# Altium schematic symbol library dvl.SchLib: 3 symbols
Pins are listed as number, name and electrical type; pins without a type are passive.

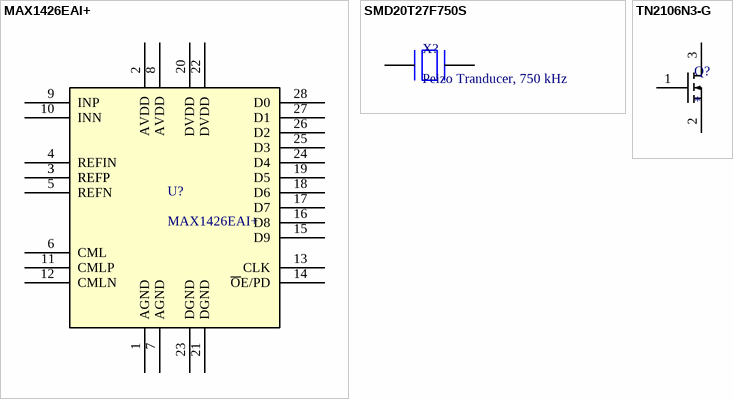
[diagram p0: symbols MAX1426EAI+ to TN2106N3-G]

## MAX1426EAI+
designator U?
No Description Available; Mfr_Name: Analog Devices / Maxim Integrated; RefDes: RefDes; Type: Type
footprint 21-0056C_28_MXM
pins: 1 AGND (power), 2 AVDD (power), 3 REFP, 3 REFP, 4 REFIN, 5 REFN, 6 CML, 7 AGND (power), 8 AVDD (power), 9 INP, 10 INN, 11 CMLP, 12 CMLN, 13 CLK, 14 ~{O}E/PD, 15 D9, 16 D8, 17 D7, 18 D6, 19 D5, 20 DVDD (power), 21 DGND (power), 22 DVDD (power), 23 DGND (power), 24 D4, 25 D3, 26 D2, 27 D1, 28 D0

## SMD20T27F750S
designator X?, comment Peizo Tranducer, 750 kHz
pins: 1, 2

## TN2106N3-G
designator Q?
Small Signal Field-Effect Transistor, 1.2A I(D), 100V, 1-Element, N-Channel, Silicon, Metal-oxide Semiconductor FET, TO-92; Manufacturer: Microchip Supertex; Manufacturer Part Number: TN2106N3-G; Package Body Material: Plastic; Drain Current-Max (Abs) (ID): 300mA; Drain-source On Resistance-Max: 2.5R; DS Breakdown Voltage-Min: 60V; Feedback Cap-Max (Crss): 8pF; Number of Elements: 1; Operating Mode: ENHANCEMENT MODE; Power Dissipation-Max (Abs): 740mW; Surface Mount: No; Transistor Application: SWITCHING; Qualification Status: Not Qualified; Supplier: Digikey; Supplier Part Number: TN2106N3-G-ND; RoHS: Yes; Category: MOSFETs; Stock: 1423; Pricing: 1=0.68, 25=0.56, 100=0.52 (USD); Pins: 3; Package Shape: Round; Terminal Finish: Tin; Transistor Element Material: SILICON; Max Operating Temperature: 150°C; JESD-609 Code: e3; Polarity/Channel Type: N-CHANNEL; Drain Current-Max (ID): 300mA; FET Technology: METAL-OXIDE SEMICONDUCTOR; JESD-30 Code: O-PBCY-T3; Package Style: CYLINDRICALMeter; Terminal Form: Through Hole; Terminal Position: BOTTOM; JEDEC-95 Code: TO-92; Reach SVHC Compliant: Yes; RoHS Compliant: Yes; ComponentLink1URL: https://datasheet.ciiva.com:443/pdfs/VipMasterIC/IC/SUPR/SUPRS03953/SUPRS03953-1.pdf?src-supplier=IHS+Markit; ComponentLink1Description: https://datasheet.ciiva.com:443/pdfs/VipMasterIC/IC/SUPR/SUPRS03953/SUPRS03953-1.pdf?src-supplier=IHS+Markit; ComponentLink2URL: https://datasheet.ciiva.com/16232/tn2106-16232278.pdf?src-supplier=Onlinecomponents.com; ComponentLink2Description: https://datasheet.ciiva.com/16232/tn2106-16232278.pdf?src-supplier=Onlinecomponents.com; ComponentLink3URL: https://datasheet.ciiva.com/30180/14tn2106-30180231.pdf?src-supplier=Onlinecomponents.com; ComponentLink3Description: https://datasheet.ciiva.com/30180/14tn2106-30180231.pdf?src-supplier=Onlinecomponents.com
pins: 1 G, 2 S, 3 D